# Altium schematic symbol library mosfet_n_diode_double.SchLib: 1 symbol
Pins are listed as number, name and electrical type; pins without a type are passive.

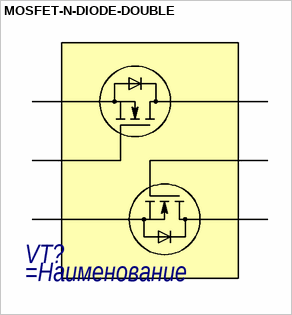
[diagram p0: symbol MOSFET-N-DIODE-DOUBLE]

## MOSFET-N-DIODE-DOUBLE
designator VT?
=Описание
pins: D1, D2, G1, G2, S1, S2